# EAGLE library part RJ11-4P (library bontor)
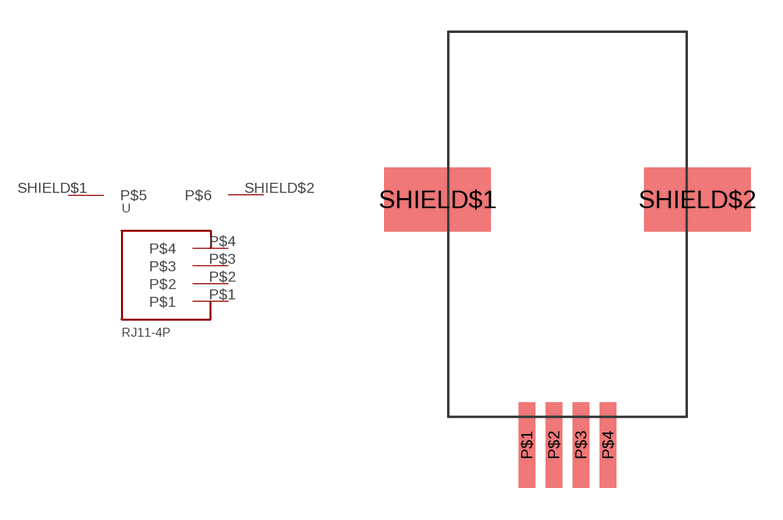
[diagram p13: symbol with the pads of RJ11-4P; footprint RJ11-4P]

Designator prefix -

## RJ11-4P  [RJ11-4P]
P$1  P$1
P$2  P$2
P$3  P$3
P$4  P$4
SHIELD$1  P$5
SHIELD$2  P$6

## Footprint RJ11-4P (pad centres in mm)
smd 0.77 x 4: P$1 -1.905,-10.375; P$2 -0.635,-10.375; P$3 0.635,-10.375; P$4 1.905,-10.375
smd 5 x 3: SHIELD$1 -6.1,1.17; SHIELD$2 6.1,1.17